# Altium footprint library PCB.PcbLib: 17 footprints (part 1 of 2)
Each footprint in its own frame and in the unit in brackets; x right, y up, seen from the top. Pads: shape width x height; smd on the part's side, far side on the other; paste and mask are expansions set on the pad; w line width, h text height; cw(c..) or ccw(c..) is an arc to the next point about the centre after c.
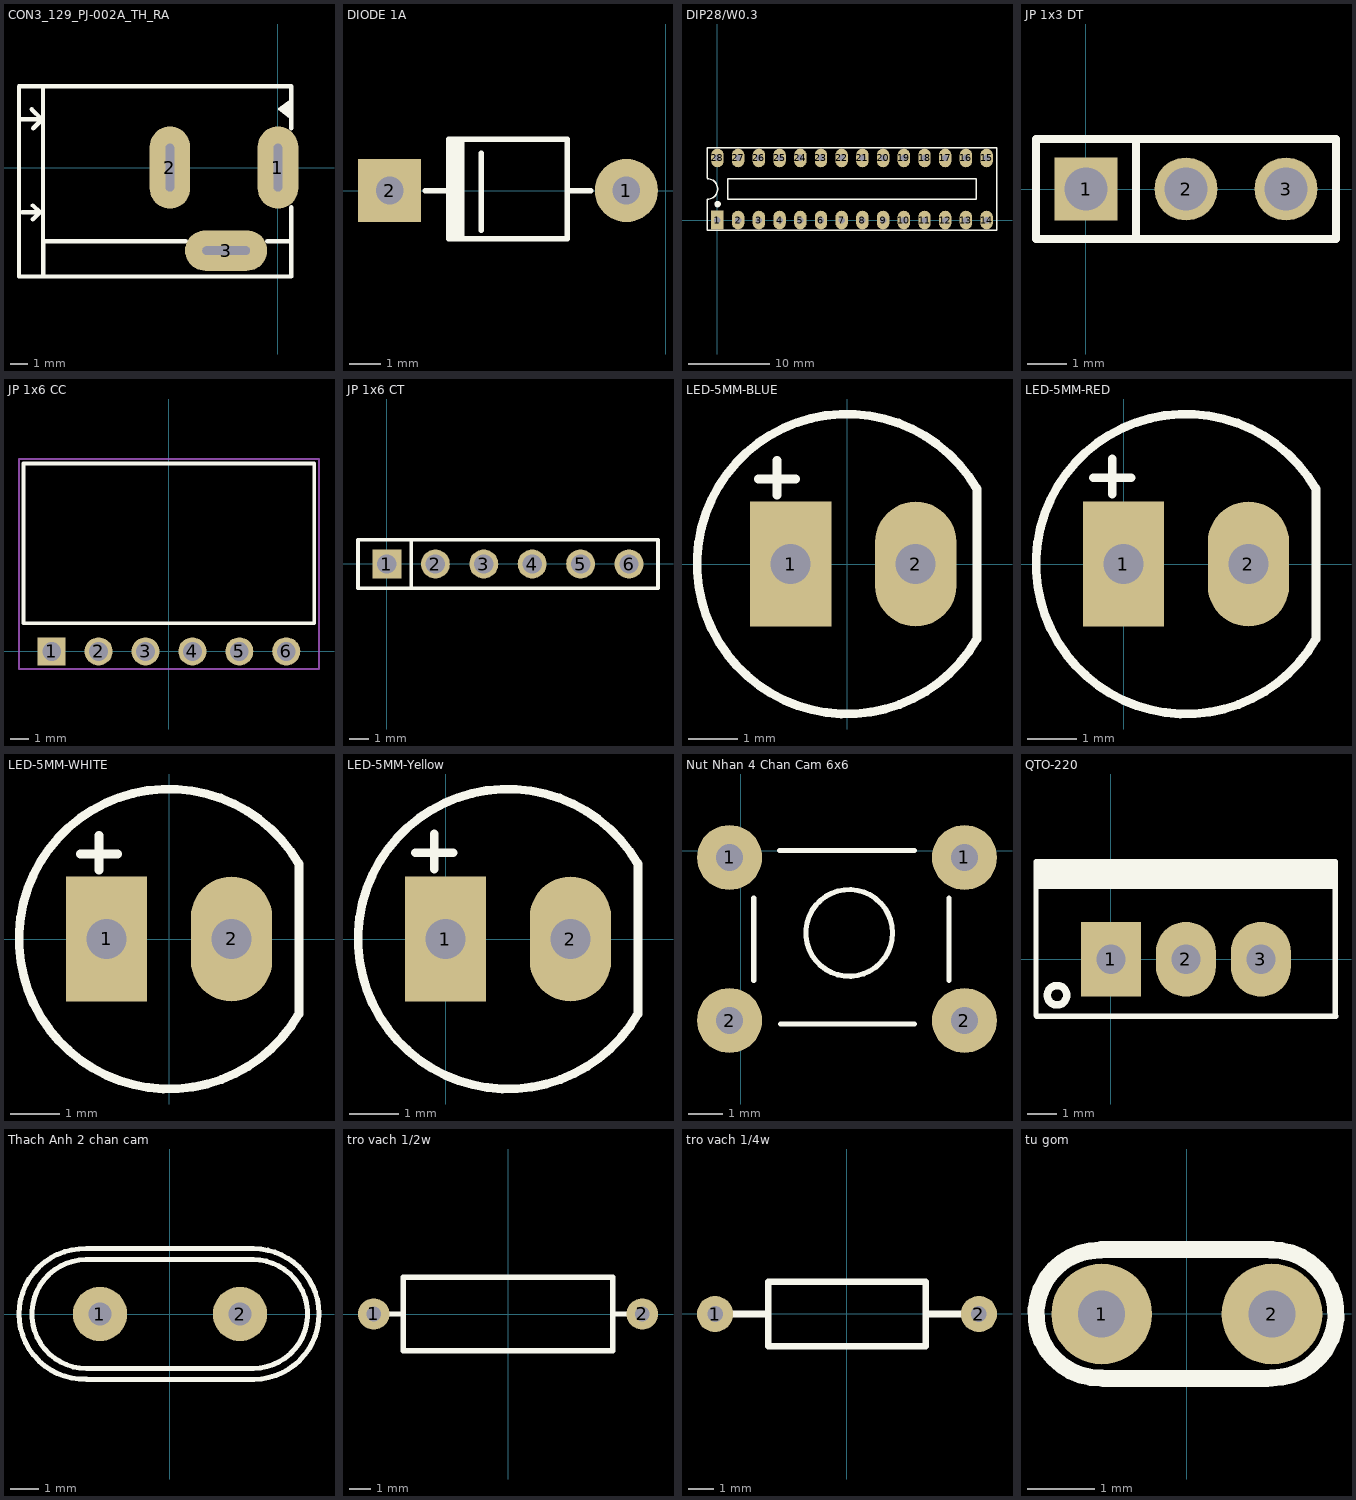
[diagram p0: the footprints below, top view; thin cyan lines are the x and y axes]

## CON3_129_PJ-002A_TH_RA [mm]
pads (3):
  oval 2.35x4.75 hole 0.5 slot 2.75 at 90 deg: 1(0,0) 2(-6.248,0)
  oval 4.75x2.35 hole 2.75 slot 0.5 at 90 deg: 3(-2.997,-4.801)
Top Overlay:
  region: 0.773,3.885 0.773,2.92 0.569,2.92 0.112,3.377
  lines w0.127: 0.798,3.936 0.061,3.383 0.81,2.801
  lines w0.254: -14.975,-6.3 -14.975,-6.198 -14.978,-6.195 -14.978,4.699 -13.589,4.699 ; -14.91,-6.3 -13.578,-6.3 ; -14.823,2.793 -13.638,2.793 -14.15,2.281 ; -14.798,-2.59 -13.772,-2.59 ; -14.25,3.381 -13.65,2.781 ; -14.172,-2.99 -13.772,-2.59 ; -14.172,-2.19 -13.772,-2.59 ; -13.589,-4.318 -13.589,4.699 ; -13.578,-4.268 -13.578,-6.3 ; -13.451,-4.268 -5.323,-4.268 ; -0.624,-4.268 0.773,-4.268 0.773,-6.3 -13.578,-6.3 ; 0.762,-4.318 0.762,-2.286 ; 0.762,2.286 0.762,4.699 -13.589,4.699
3D body "pj-002a.stp": height 11.01, standoff -3.49, extent -13.917,-4.929 0.483,4.471

## DIODE 1A [mil]
pads (2):
  round 80 hole 35: 1(-50,0)
  rect 80x80 hole 35: 2(-350,0)
Top Overlay:
  rectangle: -274.93,-61.06 -254.93,64.92
  lines w7: -305,0 -275,0 ; -275,-16 -275,0 ; -275,21 -275,0 ; -234,-50 -234,47 ; -125,0 -95,0 ; -275,0 -275,65 -125,65 -125,-60.98 -275,-60.98 -275,0
3D body "User Library-DO-15-1.step": height 122.05, standoff -137.8, extent -365.75,-60.98 -34.25,65

## DIP28/W0.3 [mil]
pads (28):
  rect 60x90 hole 31: 1(0,0)
  oval 60x90 hole 31: 2(100,0) 3(200,0) 4(300,0) 5(400,0) 6(500,0) 7(600,0) 8(700,0) 9(800,0) 10(900,0) 11(1000,0) 12(1100,0) 13(1200,0) 14(1300,0) 15(1300,300) 16(1200,300) 17(1100,300) 18(1000,300) 19(900,300) 20(800,300) 21(700,300) 22(600,300) 23(500,300) 24(400,300) 25(300,300) 26(200,300) 27(100,300) 28(0,300)
Top Overlay:
  circle w15: c1,77 r8
  lines w7: -50.38,100.05 ccw(c-48.69,150.02) -50,200 ; -50,100 -50,-50 1350,-50 1350,350 -50,350 -50,201 ; 50,100 1250,100 1250,200 50,200 50,100
3D body "SW3dPS-DIP28-300.STEP": height 200, standoff -98.03, extent -50,-10 1367.32,299.84

## JP 1x3 DT [mm]
pads (3):
  rect 1.6x1.6 hole 1.1: 1(0,0)
  round 1.6 hole 1.1: 2(2.54,0) 3(5.08,0)
Top Overlay:
  lines w0.2: 1.27,-1.27 1.27,1.27 ; -1.27,-1.27 6.35,-1.27 6.35,1.27 -1.27,1.27 -1.27,-1.27
3D body "61300311121.stp": height 8.54, standoff -3, extent -1.27,-1.27 6.35,1.27

## JP 1x6 CC [mm]
pads (6):
  rect 1.52x1.52 hole 1.02: 1(-6.35,0)
  round 1.52 hole 1.02: 2(-3.81,0) 3(-1.27,0) 4(1.27,0) 5(3.81,0) 6(6.35,0)
Top Overlay:
  lines w0.2: -7.874,1.524 -7.874,10.173 7.874,10.173 7.874,1.524 -7.874,1.524
Mechanical 15:
  lines w0.1: -8.12,-0.96 8.124,-0.96 8.124,10.423 -8.12,10.423 -8.12,-0.96
3D body "613006143121.stp": height 2.51, standoff -3.08, extent -7.87,-0.208 7.87,10.092

## JP 1x6 CT [mm]
pads (6):
  rect 1.52x1.52 hole 1.02: 1(0,0)
  round 1.52 hole 1.02: 2(2.54,0) 3(5.08,0) 4(7.62,0) 5(10.16,0) 6(12.7,0)
Top Overlay:
  lines w0.2: 1.27,-1.27 1.27,1.27 ; -1.52,-1.27 -1.52,1.27 14.22,1.27 14.22,-1.27 -1.52,-1.27
3D body "61300611821.stp": height 8.51, standoff -3.09, extent -1.52,-1.25 14.22,1.25

## LED-5MM-BLUE [mil]
pads (2):
  rect 65x100 hole 32: 1(-45,0)
  oval 65x100 hole 32: 2(55,0)
Top Overlay:
  lines w7: -71,68 -41,68 ; -56,55 -56,83 ; 103.51,60.71 ccw(c0,0) 103.94,-59.97 ; 104,-59 104,60
3D body "User Library-LEDd5B.STEP": height 339.18, standoff -243.49, extent -113.31,-120.49 100.08,116.5

## LED-5MM-RED [mil]
pads (2):
  rect 65x100 hole 32: 1(0,0)
  oval 65x100 hole 32: 2(100,0)
Top Overlay:
  lines w7: -24,69 6,69 ; -9,56 -9,84 ; 153.51,60.71 ccw(c50,0) 153.94,-59.97 ; 154,-59 154,60
3D body "SW3dPS-LEDd5R.STEP": height 339.18, standoff -243.49, extent -64.69,-119 148.69,117.99

## LED-5MM-WHITE [mil]
pads (2):
  rect 65x100 hole 32: 1(-50,0)
  oval 65x100 hole 32: 2(50,0)
Top Overlay:
  lines w7: -71,68 -41,68 ; -56,55 -56,83 ; 103.51,60.71 ccw(c0,0) 103.94,-59.97 ; 104,-59 104,60
3D body "5 mm yellow led.step": height 340.05, standoff -767.12, extent -124,-125 120.88,120.26

## LED-5MM-Yellow [mil]
pads (2):
  rect 65x100 hole 32: 1(0,0)
  oval 65x100 hole 32: 2(100,0)
Top Overlay:
  lines w7: -24,69 6,69 ; -9,56 -9,84 ; 153.51,60.71 ccw(c50,0) 153.94,-59.97 ; 154,-59 154,60
3D body "SW3dPS-LEDd5O.STEP": height 339.18, standoff -243.49, extent -66.69,-121.99 146.69,115

## Nut Nhan 4 Chan Cam 6x6 [mil]
pads (4):
  round 75 hole 31: 1(-13,-8) 1(258,-8) 2(-13,-196) 2(258,-196)
Top Overlay:
  circle w6: c125,-95 r50
  lines w6: 15,-150 15,-55 ; 45,0 200,0 ; 46,-200 200,-200 ; 240,-150 240,-55
  lines w7: 239,-215 240,-214
3D body "SW3dPS-.STEP": height 275.59, standoff -137.8, extent -30.51,-225 280.51,19.09

## QTO-220 [mil]
pads (3):
  rect 80x100 hole 39: 1(0,0)
  oval 80x100 hole 39: 2(100,0) 3(200,0)
Top Overlay:
  circle w10: c-72.03,-48 r12.97
  rectangle: -98.96,94 300.04,130
  lines w7: 298,107 299,93 ; -100,-75 -99,-76 -76,-76 300,-76 299,-75 299,130 -100,130 -100,-75
3D body "SW3dPS-TO220AB.STEP": height 754.72, standoff -400, extent -119,-64 322.46,120.65

## Thach Anh 2 chan cam [mm]
pads (2):
  round 1.905 hole 0.8: 1(-2.45,0) 2(2.45,0)
Top Overlay:
  lines w0.178: -2.939,1.905 ccw(c-2.927,0) -2.921,-1.905 2.921,-1.905 ccw(c2.908,0) 2.903,1.905 ; -2.922,-2.283 cw(c-2.998,0.001) -2.921,2.286 2.921,2.286 cw(c2.928,0) 2.943,-2.286 ; -2.921,-2.286 2.921,-2.286 ; -2.921,1.905 2.921,1.905
3D body "SW3dPS-HP49US.STEP": height 3.5, standoff -4, extent -5.675,-2.364 5.675,2.286

## tro vach 1/2w [mm]
pads (2):
  round 1.5 hole 0.7: 1(-6.4,0) 2(6.4,0)
Top Overlay:
  lines w0.254: -5.842,0 -5.08,0 ; 5.08,0 5.842,0 ; -5,-1.75 -5,1.75 5,1.75 5,-1.75 -5,-1.75
3D body "Resistro_0.5w.STEP": height 3.5, standoff -3, extent -6.62,-1.75 6.62,1.75

## tro vach 1/4w [mm]
pads (2):
  round 1.4 hole 0.6: 1(-5.1,0) 2(5.1,0)
Top Overlay:
  lines w0.254: -4.394,0 -3.073,0 ; 3.099,0 4.42,0 ; -3.048,-1.25 3.048,-1.25 3.048,1.25 -3.048,1.25 -3.048,-1.25
3D body "Resistor 0.25W-1.step": height 2.41, standoff -2, extent -5.38,-1.2 5.38,1.2

## tu gom [mm]
pads (2):
  round 1.5 hole 0.7: 1(-1.27,0) 2(1.27,0)
Top Overlay:
  lines w0.254: -1.285,0.955 ccw(c-1.295,0) -1.27,-0.954 ; -1.27,0.965 1.27,0.965 ; -1.245,-0.965 1.194,-0.965 ; 1.245,0.954 cw(c1.27,0) 1.259,-0.955
3D body "User Library-Cap 100n.step": height 6.12, standoff -1.8, extent -2.918,-0.848 2.921,0.848